# Altium schematic symbol library ZX62D-B-5PA8.Schlib: 1 symbol
Pins are listed as number, name and electrical type; pins without a type are passive.

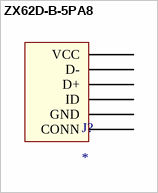
[diagram p0: symbol ZX62D-B-5PA8]

## ZX62D-B-5PA8
designator J?
CONN SM TH USB Micro
pins: 0 CONN, 1 VCC, 2 D-, 3 D+, 4 ID, 5 GND